# Altium schematic symbol library MGJ2D121509MPC-R7.SchLib: 1 symbol
Pins are listed as number, name and electrical type; pins without a type are passive.

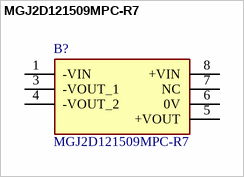
[diagram p0: symbol MGJ2D121509MPC-R7]

## MGJ2D121509MPC-R7
designator B?
Isolated DC/DC Converters DC/DC 1W SM 12-15/9V 5.2KV; Manufacturer_Name: Murata Electronics; Geometry.Height: 4.84mm; Mouser Part Number: 580-MGJ2D121509MPCR7; Mouser Price/Stock: https://www.mouser.co.uk/ProductDetail/Murata-Power-Solutions/MGJ2D121509MPC-R7?qs=QNEnbhJQKva%252B8ZMbPXWu1Q%3D%3D; Manufacturer_Part_Number: MGJ2D121509MPC-R7; Datasheet Link: https://www.mouser.jp/datasheet/2/281/1/KDC_MGJ2SM-2941076.pdf
footprint MGJ2D121509MPCR7
pins: 1 -VIN, 3 -VOUT_1, 4 -VOUT_2, 5 +VOUT, 6 0V, 7 NC, 8 +VIN